# Altium footprint library MOD-E73-2G4M04S1B.PcbLib: 1 footprints
Each footprint in its own frame and in the unit in brackets; x right, y up, seen from the top. Pads: shape width x height; smd on the part's side, far side on the other; paste and mask are expansions set on the pad; w line width, h text height; cw(c..) or ccw(c..) is an arc to the next point about the centre after c.
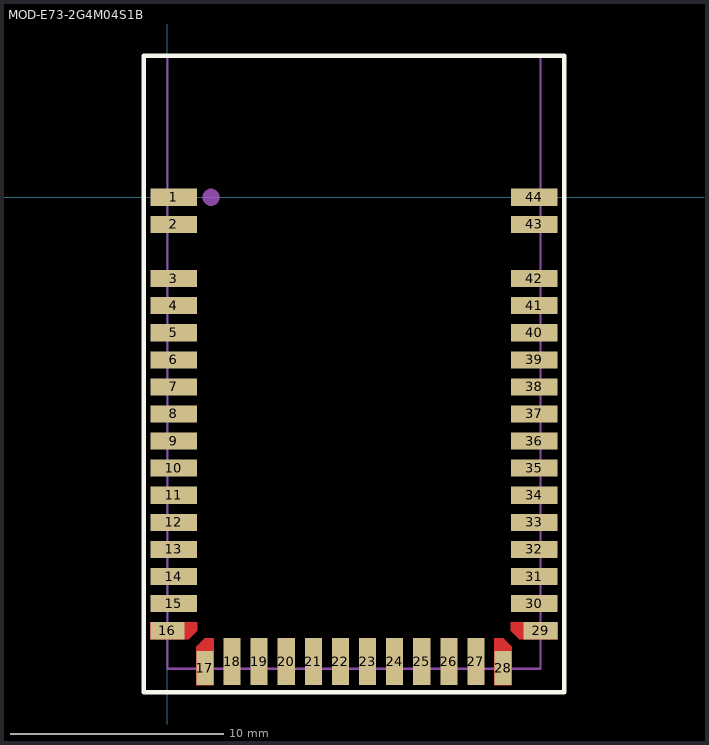
[diagram p0: the footprint, top view; thin cyan lines are the x and y axes]

## MOD-E73-2G4M04S1B [mm]
pads (44):
  rect 2.2x0.8 smd: 1(0.3,0) 2(0.3,-1.27) 3(0.3,-3.81) 4(0.3,-5.08) 5(0.3,-6.35) 6(0.3,-7.62) 7(0.3,-8.89) 8(0.3,-10.16) 9(0.3,-11.43) 10(0.3,-12.7) 11(0.3,-13.97) 12(0.3,-15.24) 13(0.3,-16.51) 14(0.3,-17.78) 15(0.3,-19.05) 30(17.2,-19.05) 31(17.2,-17.78) 32(17.2,-16.51) 33(17.2,-15.24) 34(17.2,-13.97) 35(17.2,-12.7) 36(17.2,-11.43) 37(17.2,-10.16) 38(17.2,-8.89) 39(17.2,-7.62) 40(17.2,-6.35) 41(17.2,-5.08) 42(17.2,-3.81) 43(17.2,-1.27) 44(17.2,0)
  rect 1.6x0.8 smd: 16(0,-20.32) 29(17.5,-20.32)
  rect 0.8x1.6 smd: 17(1.765,-22.07) 28(15.735,-22.07)
  rect 0.8x2.2 smd: 18(3.035,-21.77) 19(4.305,-21.77) 20(5.575,-21.77) 21(6.845,-21.77) 22(8.115,-21.77) 23(9.385,-21.77) 24(10.655,-21.77) 25(11.925,-21.77) 26(13.195,-21.77) 27(14.465,-21.77)
Top Layer:
  region: -0.8,-19.92 1.4,-19.92 1.4,-20.32 1,-20.72 -0.8,-20.72
  region: 2.165,-22.87 2.165,-20.67 1.765,-20.67 1.365,-21.07 1.365,-22.87
  region: 15.335,-22.87 15.335,-20.67 15.735,-20.67 16.135,-21.07 16.135,-22.87
  region: 18.3,-19.92 16.1,-19.92 16.1,-20.32 16.5,-20.72 18.3,-20.72
Top Overlay:
  lines w0.2: -1.1,-23.2 -1.1,6.63 18.6,6.63 18.6,-23.2 -1.1,-23.2
Top Assembly:
  circle w0.6: c2.05,0 r0.1
  lines w0.1: 0,-22.1 0,6.6 17.5,6.6 17.5,-22.1 0,-22.1
  text "'.Designator'" at 7.3,-10.8 h0.7
3D body "E73-2G4M04S1B-? ???????.STEP": height 2.7, standoff 0, extent -0.005,-22.07 17.495,6.63